# Altium integrated library LM2596SX-ADJ_NOPB.IntLib: 1 symbol
Pins are listed as number, name and electrical type; pins without a type are passive.

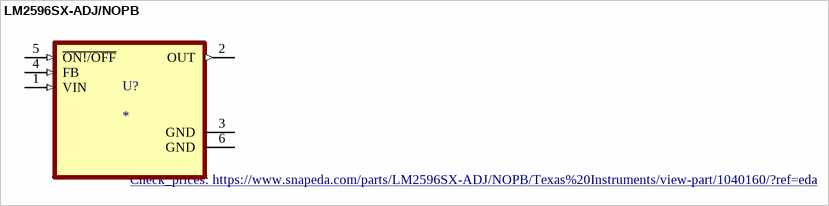
[diagram p0: symbol LM2596SX-ADJ/NOPB]

## LM2596SX-ADJ/NOPB
designator U?
SIMPLE SWITCHER&reg; 4.5V to 40V, 3A Low Component Count Step-Down Regulator 5-DDPAK/TO-263 -40 to 125; MF: Texas Instruments; MP: LM2596SX-ADJ/NOPB; Value: *; Package: TO-263-5 Texas Instruments; Purchase-URL: https://pricing.snapeda.com/search/part/LM2596SX-ADJ/NOPB/?ref=eda; Price: None; SnapEDA_Link: https://www.snapeda.com/parts/LM2596SX-ADJ/NOPB/Texas%20Instruments/view-part/1040160/?ref=snap; Availability: Good; Check_prices: https://www.snapeda.com/parts/LM2596SX-ADJ/NOPB/Texas%20Instruments/view-part/1040160/?ref=eda
footprint VREG_LM2596SX-ADJ/NOPB
pins: 1 VIN (in), 2 OUT (out), 3 GND (power), 4 FB (in), 5 ~{ON!/OFF} (in), 6 GND (power)